# Altium schematic symbol library SamacSys.SchLib: 2 symbols
Pins are listed as number, name and electrical type; pins without a type are passive.

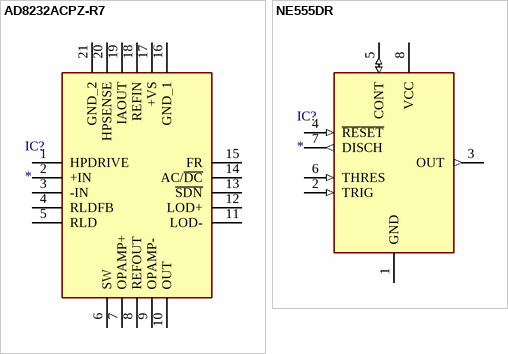
[diagram p0: symbols AD8232ACPZ-R7 to NE555DR]

## AD8232ACPZ-R7
designator IC?
Integrated Circuit; Manufacturer_Name: Analog Devices; Manufacturer_Part_Number: AD8232ACPZ-R7; Datasheet Link: https://www.analog.com/media/jp/technical-documentation/data-sheets/AD8232_jp.pdf; Height: 0.8mm; Mouser Part Number: 584-AD8232ACPZ-R7; Mouser Price/Stock: https://www.mouser.co.uk/ProductDetail/Analog-Devices/AD8232ACPZ-R7?qs=%2FtpEQrCGXCwf%2FvQng%2FSFzg%3D%3D; Arrow Part Number: AD8232ACPZ-R7; Arrow Price/Stock: https://www.arrow.com/en/products/ad8232acpz-r7/analog-devices?region=nac
footprint QFN50P400X400X80-21N-D
pins: 1 HPDRIVE, 2 +IN, 3 -IN, 4 RLDFB, 5 RLD, 6 SW, 7 OPAMP+, 8 REFOUT, 9 OPAMP-, 10 OUT, 11 LOD-, 12 LOD+, 13 ~{SDN}, 14 AC/~{DC}, 15 FR, 16 GND_1, 17 +VS, 18 REFIN, 19 IAOUT, 20 HPSENSE, 21 GND_2

## NE555DR
designator IC?
Integrated Circuit; Manufacturer_Name: Texas Instruments; Manufacturer_Part_Number: NE555DR; Datasheet Link: http://www.ti.com/lit/ds/symlink/ne555.pdf; Height: 1.75mm; Mouser Part Number: 595-NE555DR; Mouser Price/Stock: https://www.mouser.com/Search/Refine.aspx?Keyword=595-NE555DR; RS Part Number: 1218414; RS Price/Stock: http://uk.rs-online.com/web/p/products/1218414
footprint SOIC127P600X175-8N
pins: 1 GND (power), 2 TRIG (in), 3 OUT (out), 4 ~{RESET} (in), 5 CONT (io), 6 THRES (in), 7 DISCH (out), 8 VCC (power)